# Altium footprint library SPBT2632.PcbLib: 1 footprints
Each footprint in its own frame and in the unit in brackets; x right, y up, seen from the top. Pads: shape width x height; smd on the part's side, far side on the other; paste and mask are expansions set on the pad; w line width, h text height; cw(c..) or ccw(c..) is an arc to the next point about the centre after c.
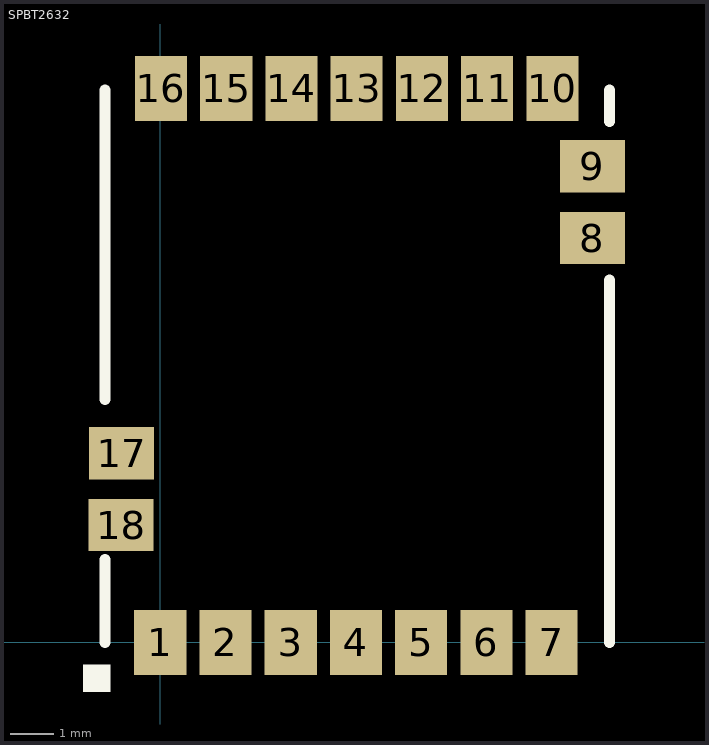
[diagram p0: the footprint, top view; thin cyan lines are the x and y axes]

## SPBT2632 [mm]
pads (18):
  rect 1.2x1.5 smd: 1(0,0) 2(1.5,0) 3(3,0) 4(4.5,0) 5(6,0) 6(7.5,0) 7(9,0) 10(9.017,12.74) 11(7.517,12.74) 12(6.017,12.74) 13(4.517,12.74) 14(3.017,12.74) 15(1.517,12.74) 16(0.017,12.74)
  rect 1.5x1.2 smd: 8(9.94,9.3) 9(9.94,10.95) 17(-0.889,4.35) 18(-0.9,2.7)
Top Overlay:
  rectangle: -1.778,-1.143 -1.143,-0.508
  lines w0.254: -1.27,0 -1.27,1.905 ; -1.27,5.588 -1.27,12.7 ; 10.33,0 10.33,8.339 ; 10.33,11.981 10.33,12.7